# EAGLE library part MINIFITJR-8 (library C8051F300)
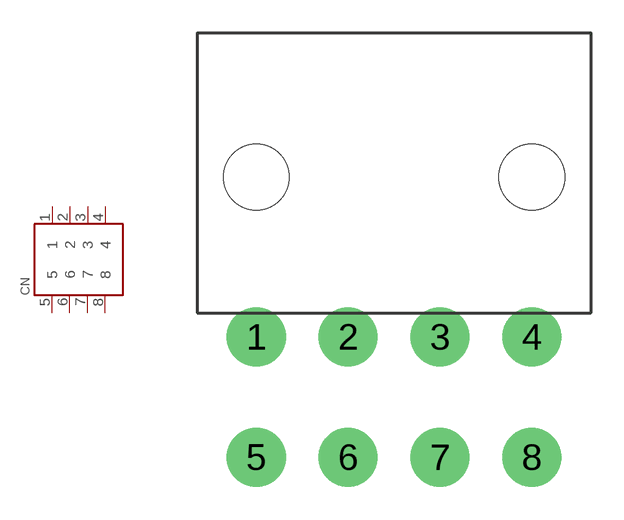
[diagram p20: symbol with the pads of MINIFITJR-8; footprint MINIFITJR-8]

Designator prefix CN

## MINIFITJR-8  [MINIFITJR-8]
1  1  pas
2  2  pas
3  3  pas
4  4  pas
5  5  pas
6  6  pas
7  7  pas
8  8  pas

## Footprint MINIFITJR-8 (pad centres in mm)
drill 1.8 round: 1 -6.3,-7.3; 2 -2.1,-7.3; 3 2.1,-7.3; 4 6.3,-7.3; 5 -6.3,-12.8; 6 -2.1,-12.8; 7 2.1,-12.8; 8 6.3,-12.8
hole 3 at -6.3,0
hole 3 at 6.3,0